# EAGLE library part ACS711 (library comma.ai)
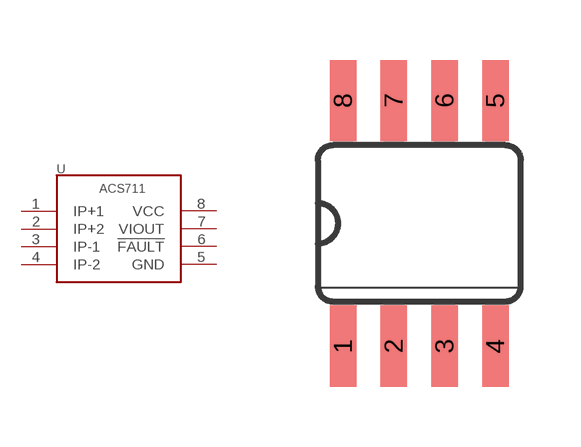
[diagram p6: symbol with the pads of SO08; footprint SO08]

Designator prefix -

## ACS711  [SO08]
1  IP+1
2  IP+2
3  IP-1
4  IP-2
5  GND
6  !FAULT
7  VIOUT
8  VCC

## Footprint SO08 (pad centres in mm)
smd 0.66 x 2.032: 1 -1.905,-3.073; 2 -0.635,-3.073; 3 0.635,-3.073; 4 1.905,-3.073; 5 1.905,3.073; 6 0.635,3.073; 7 -0.635,3.073; 8 -1.905,3.073